# Altium footprint library Inductores.PcbLib: 2 footprints
Each footprint in its own frame and in the unit in brackets; x right, y up, seen from the top. Pads: shape width x height; smd on the part's side, far side on the other; paste and mask are expansions set on the pad; w line width, h text height; cw(c..) or ccw(c..) is an arc to the next point about the centre after c.
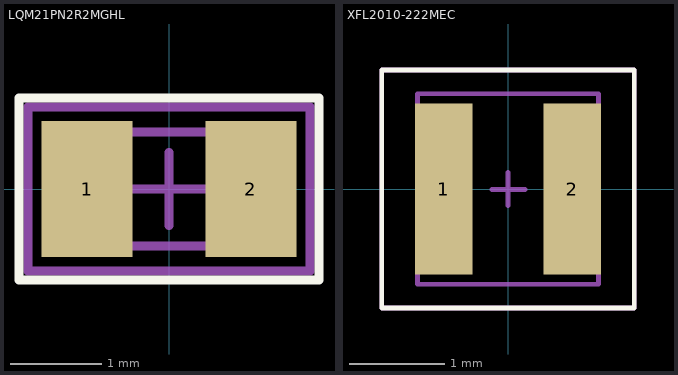
[diagram p0: the footprints below, top view; thin cyan lines are the x and y axes]

## LQM21PN2R2MGHL [mm]
pads (2):
  rect 1x1.5 smd: 1(-0.9,0) 2(0.9,0)
Top Overlay:
  lines w0.1: -1.65,-1 1.65,-1 1.65,1 -1.65,1 -1.65,-1
Top Courtyard:
  lines w0.1: -0.4,0 0,0 ; 0,-0.4 0,0 ; 0,0.4 0,0 ; 0.4,0 0,0 ; -1.55,-0.9 -1.55,0.9 1.55,0.9 1.55,-0.9 -1.55,-0.9 ; -1,-0.625 1,-0.625 1,0.625 -1,0.625 -1,-0.625
  text "'.Designator'" at -1.305,-0.748 h0.2
3D body "LQM21PN2R2MGHL.stp": height 1.02, standoff 0.02, extent -1,-0.625 1,0.625

## XFL2010-222MEC [mm]
pads (2):
  rect 0.6x1.8 smd: 1(-0.675,0) 2(0.675,0)
Top Overlay:
  lines w0.05: -1.325,-1.25 -1.325,1.25 1.325,1.25 1.325,-1.25 -1.325,-1.25
Top Courtyard:
  lines w0.05: -0.172,-0.005 0.003,-0.005 0.178,-0.005 ; 0,-0.175 0,0 0,0.175 ; -1.325,-1.25 1.325,-1.25 1.325,1.25 -1.325,1.25 -1.325,-1.25 ; -0.95,-1 0.95,-1 0.95,1 -0.95,1 -0.95,-1
  text "'.Designator'" at -1.235,0.582 h0.2
3D body "XFL2010-222MEC.stp": height 1.1, standoff 0, extent -0.95,-1.005 0.95,0.995